# Altium footprint library MB0033A.01.A.1.PcbLib: 1 footprints
Each footprint in its own frame and in the unit in brackets; x right, y up, seen from the top. Pads: shape width x height; smd on the part's side, far side on the other; paste and mask are expansions set on the pad; w line width, h text height; cw(c..) or ccw(c..) is an arc to the next point about the centre after c.
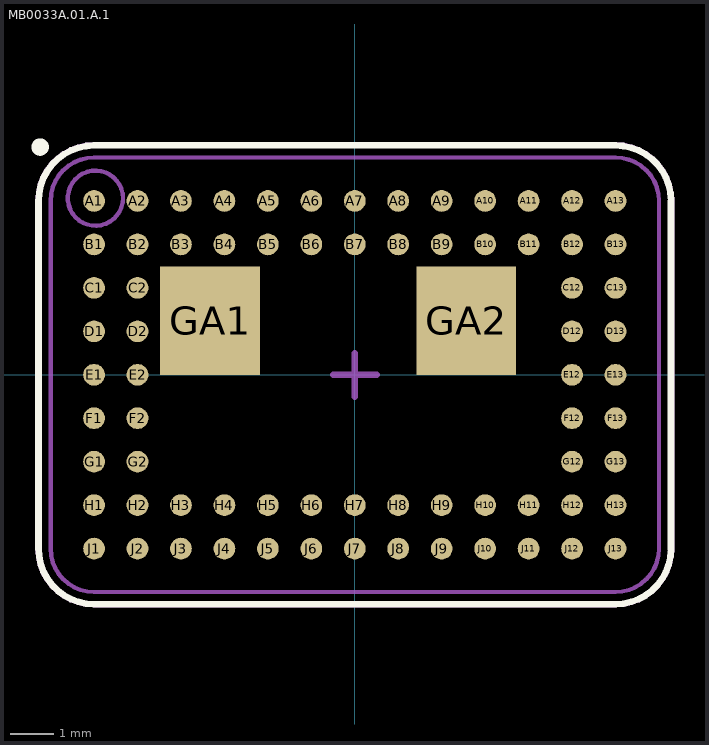
[diagram p0: the footprint, top view; thin cyan lines are the x and y axes]

## MB0033A.01.A.1 [mm]
height 1.2
pads (74):
  round 0.5 smd: A1(-6,4) A2(-5,4) A3(-4,4) A4(-3,4) A5(-2,4) A6(-1,4) A7(0,4) A8(1,4) A9(2,4) A10(3,4) A11(4,4) A12(5,4) A13(6,4) B1(-6,3) B2(-5,3) B3(-4,3) B4(-3,3) B5(-2,3) B6(-1,3) B7(0,3) B8(1,3) B9(2,3) B10(3,3) B11(4,3) B12(5,3) B13(6,3) C1(-6,2) C2(-5,2) C12(5,2) C13(6,2) D1(-6,1) D2(-5,1) D12(5,1) D13(6,1) E1(-6,0) E2(-5,0) E12(5,0) E13(6,0) F1(-6,-1) F2(-5,-1) F12(5,-1) F13(6,-1) G1(-6,-2) G2(-5,-2) G12(5,-2) G13(6,-2) H1(-6,-3) H2(-5,-3) H3(-4,-3) H4(-3,-3) H5(-2,-3) H6(-1,-3) H7(0,-3) H8(1,-3) H9(2,-3) H10(3,-3) H11(4,-3) H12(5,-3) H13(6,-3) J1(-6,-4) J2(-5,-4) J3(-4,-4) J4(-3,-4) J5(-2,-4) J6(-1,-4) J7(0,-4) J8(1,-4) J9(2,-4) J10(3,-4) J11(4,-4) J12(5,-4) J13(6,-4)
  rect 2.3x2.5 smd: GA1(-3.327,1.245) GA2(2.565,1.245)
Top Overlay:
  circle w0.2: c-7.24,5.24 r0.1
  lines w0.152: -7.278,-4 ccw(c-6,-4) -6,-5.278 6,-5.278 ccw(c6,-4) 7.278,-4 7.278,4 ccw(c6,4) 6,5.278 -6,5.278 ccw(c-6,4) -7.278,4 -7.278,-4
Mechanical 13:
  circle w0.1: c-5.969,4.064 r0.635
  lines w0.1: -7,-4 ccw(c-6,-4) -6,-5 6,-5 ccw(c6,-4) 7,-4 7,4 ccw(c6,4) 6,5 -6,5 ccw(c-6,4) -7,4 -7,-4
Mechanical 15:
  lines w0.1: -7.304,-4 ccw(c-6,-4) -6,-5.304 6,-5.304 ccw(c6,-4) 7.304,-4 7.304,4 ccw(c6,4) 6,5.304 -6,5.304 ccw(c-6,4) -7.304,4 -7.304,-4
  lines w0.152: -0.5,0 0.5,0 ; 0,-0.5 0,0.5
3D body: height 3.81, standoff 0, extent -7.3,-5.3 7.3,5.3